# EAGLE library part S1216V8 (library maholli)
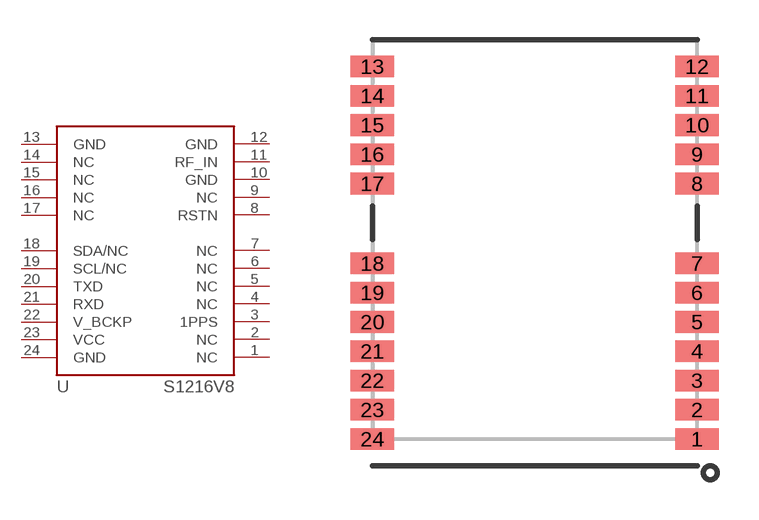
[diagram p0: symbol with the pads of S1216_24PIN_PACKAGE; footprint S1216_24PIN_PACKAGE]

Designator prefix U

## S1216V8  [S1216_24PIN_PACKAGE]
1  NC
2  NC
3  1PPS
4  NC
5  NC
6  NC
7  NC
8  RSTN
9  NC
10  GND
11  RF_IN
12  GND
13  GND
14  NC
15  NC
16  NC
17  NC
18  SDA/NC
19  SCL/NC
20  TXD
21  RXD
22  V_BCKP
23  VCC
24  GND

## Footprint S1216_24PIN_PACKAGE (pad centres in mm)
smd 1.626 x 0.813: 1 5.85,-7.62; 2 5.85,-6.52; 3 5.85,-5.42; 4 5.85,-4.32; 5 5.85,-3.22; 6 5.85,-2.12; 7 5.85,-1.02; 8 5.85,1.98; 9 5.85,3.08; 10 5.85,4.18; 11 5.85,5.28; 12 5.85,6.38; 13 -6.35,6.38; 14 -6.35,5.28; 15 -6.35,4.18; 16 -6.35,3.08; 17 -6.35,1.98; 18 -6.35,-1.02; 19 -6.35,-2.12; 20 -6.35,-3.22; 21 -6.35,-4.32; 22 -6.35,-5.42; 23 -6.35,-6.52; 24 -6.35,-7.62